# EAGLE library part SPARKFUN_OPENLOG (library air_quality_parts)
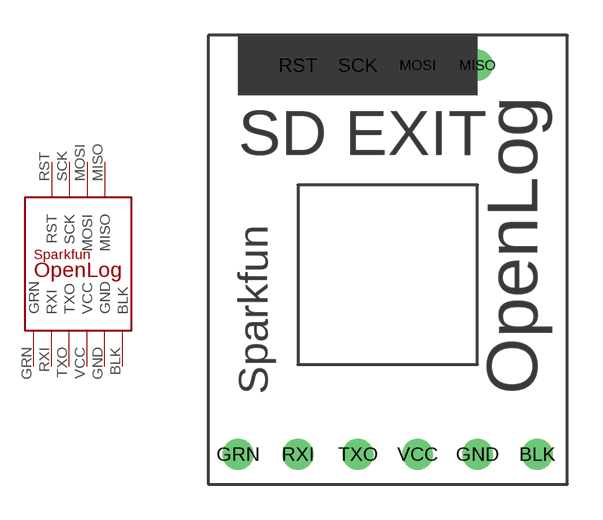
[diagram p3: symbol with the pads of SPARKFUN_OPENLOG; footprint SPARKFUN_OPENLOG]

Designator prefix -

## SPARKFUN_OPENLOG  [SPARKFUN_OPENLOG]
BLK  BLK
GND  GND
GRN  GRN
MISO  MISO
MOSI  MOSI
RST  RST
RXI  RXI
SCK  SCK
TXO  TXO
VCC  VCC

## Footprint SPARKFUN_OPENLOG (pad centres in mm)
drill 0.8: BLK 13.97,1.27; GND 11.43,1.27; GRN 1.27,1.27; MISO 11.43,17.78; MOSI 8.89,17.78; RXI 3.81,1.27; SCK 6.35,17.78; TXO 6.35,1.27; VCC 8.89,1.27
drill 0.8 square: RST 3.81,17.78